# EAGLE library part IVC102 (library IVC102)
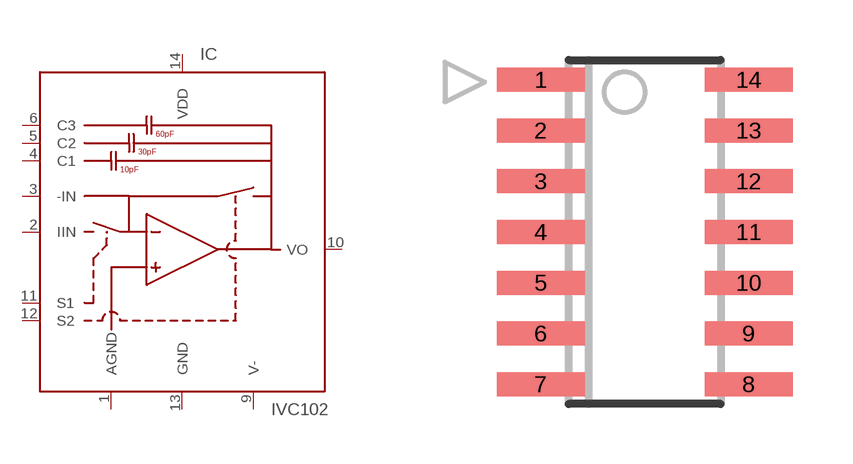
[diagram p0: symbol with the pads of SOIC-14; footprint SOIC-14]

Designator prefix IC

## IVC102U (MARK: IVC102U; MF: Texas Instruments; MPN: IVC102U)  [SOIC-14]
1  AGND  pwr
2  IIN
3  -IN
4  C1
5  C2
6  C3
9  V-  pwr
10  VO  out
11  S1  in
12  S2  in
13  GND  pwr
14  VDD  pwr

## Footprint SOIC-14 (pad centres in mm)
14-Lead Narrow-Body SOIC (SO-14) Source: http://www.analog.com/static/imported-files/data_sheets/SSM2166.pdf
smd 2.2 x 0.6: 1 -2.6,3.81; 2 -2.6,2.54; 3 -2.6,1.27; 4 -2.6,0; 5 -2.6,-1.27; 6 -2.6,-2.54; 7 -2.6,-3.81; 8 2.6,-3.81; 9 2.6,-2.54; 10 2.6,-1.27; 11 2.6,0; 12 2.6,1.27; 13 2.6,2.54; 14 2.6,3.81